# Altium integrated library ALTIUM-WE-LQS-rev16b.IntLib: 189 symbols (part 2 of 2)
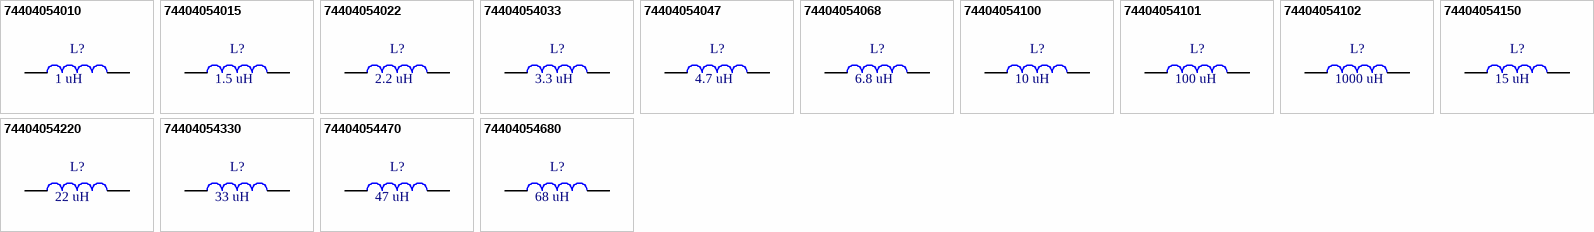
[diagram p13: symbols 74404054010 to 74404054680]

## 74404054102
designator L?  value 1000 uH
WE-LQS SMD Power Inductor, size 5040, 1000 uH; PartNumber: 74404054102; RatedCurrent: 0.2 A; PublishedDate: Nov. 2016; Publisher: Wurth Elektronik; ComponentLink1Description: Manufacturer; ComponentLink1URL: http://www.we-online.de; ComponentLink2Description: Datasheet; ComponentLink2URL: http://katalog.we-online.de/pbs/datasheet/74404054102.pdf; Size: 5040
footprint WE-LQS_5040
pins: 1, 2

## 74404054150
designator L?  value 15 uH
WE-LQS SMD Power Inductor, size 5040, 15 uH; PartNumber: 74404054150; RatedCurrent: 2 A; PublishedDate: Nov. 2016; Publisher: Wurth Elektronik; ComponentLink1Description: Manufacturer; ComponentLink1URL: http://www.we-online.de; ComponentLink2Description: Datasheet; ComponentLink2URL: http://katalog.we-online.de/pbs/datasheet/74404054150.pdf; Size: 5040
footprint WE-LQS_5040
pins: 1, 2

## 74404054220
designator L?  value 22 uH
WE-LQS SMD Power Inductor, size 5040, 22 uH; PartNumber: 74404054220; RatedCurrent: 1.5 A; PublishedDate: Nov. 2016; Publisher: Wurth Elektronik; ComponentLink1Description: Manufacturer; ComponentLink1URL: http://www.we-online.de; ComponentLink2Description: Datasheet; ComponentLink2URL: http://katalog.we-online.de/pbs/datasheet/74404054220.pdf; Size: 5040
footprint WE-LQS_5040
pins: 1, 2

## 74404054330
designator L?  value 33 uH
WE-LQS SMD Power Inductor, size 5040, 33 uH; PartNumber: 74404054330; RatedCurrent: 1.2 A; PublishedDate: Nov. 2016; Publisher: Wurth Elektronik; ComponentLink1Description: Manufacturer; ComponentLink1URL: http://www.we-online.de; ComponentLink2Description: Datasheet; ComponentLink2URL: http://katalog.we-online.de/pbs/datasheet/74404054330.pdf; Size: 5040
footprint WE-LQS_5040
pins: 1, 2

## 74404054470
designator L?  value 47 uH
WE-LQS SMD Power Inductor, size 5040, 47 uH; PartNumber: 74404054470; RatedCurrent: 1 A; PublishedDate: Nov. 2016; Publisher: Wurth Elektronik; ComponentLink1Description: Manufacturer; ComponentLink1URL: http://www.we-online.de; ComponentLink2Description: Datasheet; ComponentLink2URL: http://katalog.we-online.de/pbs/datasheet/74404054470.pdf; Size: 5040
footprint WE-LQS_5040
pins: 1, 2

## 74404054680
designator L?  value 68 uH
WE-LQS SMD Power Inductor, size 5040, 68 uH; PartNumber: 74404054680; RatedCurrent: 0.8 A; PublishedDate: Nov. 2016; Publisher: Wurth Elektronik; ComponentLink1Description: Manufacturer; ComponentLink1URL: http://www.we-online.de; ComponentLink2Description: Datasheet; ComponentLink2URL: http://katalog.we-online.de/pbs/datasheet/74404054680.pdf; Size: 5040
footprint WE-LQS_5040 (SMD Power Inductor, 2-Leads, body 5.0x5.0mm)
pins: 1, 2


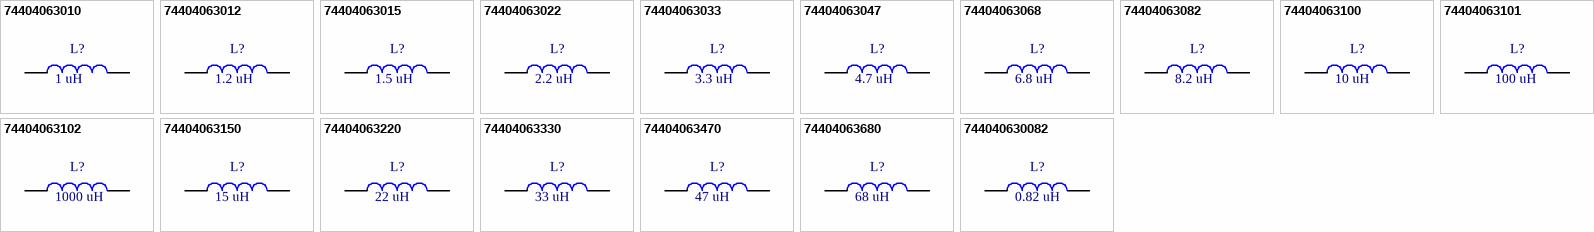
[diagram p9: symbols 74404063010 to 744040630082]

## 74404063010
designator L?  value 1 uH
WE-LQS SMD Power Inductor, size 6028, 1 uH; PartNumber: 74404063010; RatedCurrent: 5.2 A; PublishedDate: Nov. 2016; Publisher: Wurth Elektronik; ComponentLink1Description: Manufacturer; ComponentLink1URL: http://www.we-online.de; ComponentLink2Description: Datasheet; ComponentLink2URL: http://katalog.we-online.de/pbs/datasheet/74404063010.pdf; Size: 6028
footprint WE-LQS_6028
pins: 1, 2

## 74404063012
designator L?  value 1.2 uH
WE-LQS SMD Power Inductor, size 6028, 1.2 uH; PartNumber: 74404063012; RatedCurrent: 4.7 A; PublishedDate: Nov. 2016; Publisher: Wurth Elektronik; ComponentLink1Description: Manufacturer; ComponentLink1URL: http://www.we-online.de; ComponentLink2Description: Datasheet; ComponentLink2URL: http://katalog.we-online.de/pbs/datasheet/74404063012.pdf; Size: 6028
footprint WE-LQS_6028
pins: 1, 2

## 74404063015
designator L?  value 1.5 uH
WE-LQS SMD Power Inductor, size 6028, 1.5 uH; PartNumber: 74404063015; RatedCurrent: 4.58 A; PublishedDate: Nov. 2016; Publisher: Wurth Elektronik; ComponentLink1Description: Manufacturer; ComponentLink1URL: http://www.we-online.de; ComponentLink2Description: Datasheet; ComponentLink2URL: http://katalog.we-online.de/pbs/datasheet/74404063015.pdf; Size: 6028
footprint WE-LQS_6028
pins: 1, 2

## 74404063022
designator L?  value 2.2 uH
WE-LQS SMD Power Inductor, size 6028, 2.2 uH; PartNumber: 74404063022; RatedCurrent: 3.75 A; PublishedDate: Nov. 2016; Publisher: Wurth Elektronik; ComponentLink1Description: Manufacturer; ComponentLink1URL: http://www.we-online.de; ComponentLink2Description: Datasheet; ComponentLink2URL: http://katalog.we-online.de/pbs/datasheet/74404063022.pdf; Size: 6028
footprint WE-LQS_6028
pins: 1, 2

## 74404063033
designator L?  value 3.3 uH
WE-LQS SMD Power Inductor, size 6028, 3.3 uH; PartNumber: 74404063033; RatedCurrent: 3.48 A; PublishedDate: Nov. 2016; Publisher: Wurth Elektronik; ComponentLink1Description: Manufacturer; ComponentLink1URL: http://www.we-online.de; ComponentLink2Description: Datasheet; ComponentLink2URL: http://katalog.we-online.de/pbs/datasheet/74404063033.pdf; Size: 6028
footprint WE-LQS_6028
pins: 1, 2

## 74404063047
designator L?  value 4.7 uH
WE-LQS SMD Power Inductor, size 6028, 4.7 uH; PartNumber: 74404063047; RatedCurrent: 3.08 A; PublishedDate: Nov. 2016; Publisher: Wurth Elektronik; ComponentLink1Description: Manufacturer; ComponentLink1URL: http://www.we-online.de; ComponentLink2Description: Datasheet; ComponentLink2URL: http://katalog.we-online.de/pbs/datasheet/74404063047.pdf; Size: 6028
footprint WE-LQS_6028
pins: 1, 2

## 74404063068
designator L?  value 6.8 uH
WE-LQS SMD Power Inductor, size 6028, 6.8 uH; PartNumber: 74404063068; RatedCurrent: 2.4 A; PublishedDate: Nov. 2016; Publisher: Wurth Elektronik; ComponentLink1Description: Manufacturer; ComponentLink1URL: http://www.we-online.de; ComponentLink2Description: Datasheet; ComponentLink2URL: http://katalog.we-online.de/pbs/datasheet/74404063068.pdf; Size: 6028
footprint WE-LQS_6028
pins: 1, 2

## 74404063082
designator L?  value 8.2 uH
WE-LQS SMD Power Inductor, size 6028, 8.2 uH; PartNumber: 74404063082; RatedCurrent: 2.25 A; PublishedDate: Nov. 2016; Publisher: Wurth Elektronik; ComponentLink1Description: Manufacturer; ComponentLink1URL: http://www.we-online.de; ComponentLink2Description: Datasheet; ComponentLink2URL: http://katalog.we-online.de/pbs/datasheet/74404063082.pdf; Size: 6028
footprint WE-LQS_6028
pins: 1, 2

## 74404063100
designator L?  value 10 uH
WE-LQS SMD Power Inductor, size 6028, 10 uH; PartNumber: 74404063100; RatedCurrent: 1.95 A; PublishedDate: Nov. 2016; Publisher: Wurth Elektronik; ComponentLink1Description: Manufacturer; ComponentLink1URL: http://www.we-online.de; ComponentLink2Description: Datasheet; ComponentLink2URL: http://katalog.we-online.de/pbs/datasheet/74404063100.pdf; Size: 6028
footprint WE-LQS_6028
pins: 1, 2

## 74404063101
designator L?  value 100 uH
WE-LQS SMD Power Inductor, size 6028, 100 uH; PartNumber: 74404063101; RatedCurrent: 0.7 A; PublishedDate: Nov. 2016; Publisher: Wurth Elektronik; ComponentLink1Description: Manufacturer; ComponentLink1URL: http://www.we-online.de; ComponentLink2Description: Datasheet; ComponentLink2URL: http://katalog.we-online.de/pbs/datasheet/74404063101.pdf; Size: 6028
footprint WE-LQS_6028
pins: 1, 2

## 74404063102
designator L?  value 1000 uH
WE-LQS SMD Power Inductor, size 6028, 1000 uH; PartNumber: 74404063102; RatedCurrent: 0.22 A; PublishedDate: Nov. 2016; Publisher: Wurth Elektronik; ComponentLink1Description: Manufacturer; ComponentLink1URL: http://www.we-online.de; ComponentLink2Description: Datasheet; ComponentLink2URL: http://katalog.we-online.de/pbs/datasheet/74404063102.pdf; Size: 6028
footprint WE-LQS_6028
pins: 1, 2

## 74404063150
designator L?  value 15 uH
WE-LQS SMD Power Inductor, size 6028, 15 uH; PartNumber: 74404063150; RatedCurrent: 1.45 A; PublishedDate: Nov. 2016; Publisher: Wurth Elektronik; ComponentLink1Description: Manufacturer; ComponentLink1URL: http://www.we-online.de; ComponentLink2Description: Datasheet; ComponentLink2URL: http://katalog.we-online.de/pbs/datasheet/74404063150.pdf; Size: 6028
footprint WE-LQS_6028
pins: 1, 2

## 74404063220
designator L?  value 22 uH
WE-LQS SMD Power Inductor, size 6028, 22 uH; PartNumber: 74404063220; RatedCurrent: 1.4 A; PublishedDate: Nov. 2016; Publisher: Wurth Elektronik; ComponentLink1Description: Manufacturer; ComponentLink1URL: http://www.we-online.de; ComponentLink2Description: Datasheet; ComponentLink2URL: http://katalog.we-online.de/pbs/datasheet/74404063220.pdf; Size: 6028
footprint WE-LQS_6028
pins: 1, 2

## 74404063330
designator L?  value 33 uH
WE-LQS SMD Power Inductor, size 6028, 33 uH; PartNumber: 74404063330; RatedCurrent: 1.22 A; PublishedDate: Nov. 2016; Publisher: Wurth Elektronik; ComponentLink1Description: Manufacturer; ComponentLink1URL: http://www.we-online.de; ComponentLink2Description: Datasheet; ComponentLink2URL: http://katalog.we-online.de/pbs/datasheet/74404063330.pdf; Size: 6028
footprint WE-LQS_6028
pins: 1, 2

## 74404063470
designator L?  value 47 uH
WE-LQS SMD Power Inductor, size 6028, 47 uH; PartNumber: 74404063470; RatedCurrent: 1.06 A; PublishedDate: Nov. 2016; Publisher: Wurth Elektronik; ComponentLink1Description: Manufacturer; ComponentLink1URL: http://www.we-online.de; ComponentLink2Description: Datasheet; ComponentLink2URL: http://katalog.we-online.de/pbs/datasheet/74404063470.pdf; Size: 6028
footprint WE-LQS_6028
pins: 1, 2

## 74404063680
designator L?  value 68 uH
WE-LQS SMD Power Inductor, size 6028, 68 uH; PartNumber: 74404063680; RatedCurrent: 0.86 A; PublishedDate: Nov. 2016; Publisher: Wurth Elektronik; ComponentLink1Description: Manufacturer; ComponentLink1URL: http://www.we-online.de; ComponentLink2Description: Datasheet; ComponentLink2URL: http://katalog.we-online.de/pbs/datasheet/74404063680.pdf; Size: 6028
footprint WE-LQS_6028 (SMD Power Inductor, 2-Leads, body 6.0x6.0mm)
pins: 1, 2

## 744040630082
designator L?  value 0.82 uH
WE-LQS SMD Power Inductor, size 6028, 0.82 uH; PartNumber: 744040630082; RatedCurrent: 6 A; PublishedDate: Nov. 2016; Publisher: Wurth Elektronik; ComponentLink1Description: Manufacturer; ComponentLink1URL: http://www.we-online.de; ComponentLink2Description: Datasheet; ComponentLink2URL: http://katalog.we-online.de/pbs/datasheet/744040630082.pdf; Size: 6028
footprint WE-LQS_6028
pins: 1, 2


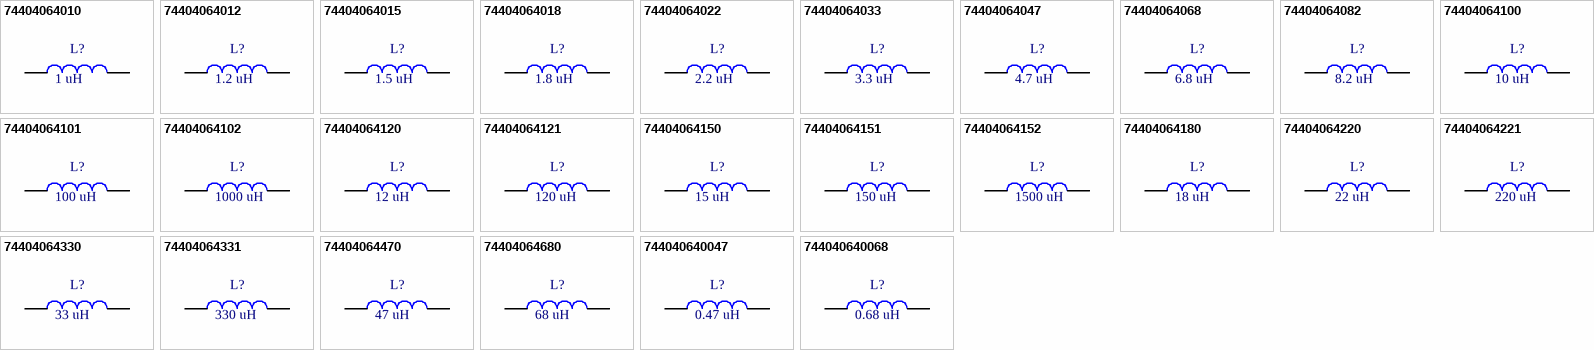
[diagram p10: symbols 74404064010 to 744040640068]

## 74404064010
designator L?  value 1 uH
WE-LQS SMD Power Inductor, size 6045, 1 uH; PartNumber: 74404064010; RatedCurrent: 5.14 A; PublishedDate: Nov. 2016; Publisher: Wurth Elektronik; ComponentLink1Description: Manufacturer; ComponentLink1URL: http://www.we-online.de; ComponentLink2Description: Datasheet; ComponentLink2URL: http://katalog.we-online.de/pbs/datasheet/74404064010.pdf; Size: 6045
footprint WE-LQS_6045
pins: 1, 2

## 74404064012
designator L?  value 1.2 uH
WE-LQS SMD Power Inductor, size 6045, 1.2 uH; PartNumber: 74404064012; RatedCurrent: 5.4 A; PublishedDate: Nov. 2016; Publisher: Wurth Elektronik; ComponentLink1Description: Manufacturer; ComponentLink1URL: http://www.we-online.de; ComponentLink2Description: Datasheet; ComponentLink2URL: http://katalog.we-online.de/pbs/datasheet/74404064012.pdf; Size: 6045
footprint WE-LQS_6045
pins: 1, 2

## 74404064015
designator L?  value 1.5 uH
WE-LQS SMD Power Inductor, size 6045, 1.5 uH; PartNumber: 74404064015; RatedCurrent: 4.95 A; PublishedDate: Nov. 2016; Publisher: Wurth Elektronik; ComponentLink1Description: Manufacturer; ComponentLink1URL: http://www.we-online.de; ComponentLink2Description: Datasheet; ComponentLink2URL: http://katalog.we-online.de/pbs/datasheet/74404064015.pdf; Size: 6045
footprint WE-LQS_6045
pins: 1, 2

## 74404064018
designator L?  value 1.8 uH
WE-LQS SMD Power Inductor, size 6045, 1.8 uH; PartNumber: 74404064018; RatedCurrent: 4.95 A; PublishedDate: Nov. 2016; Publisher: Wurth Elektronik; ComponentLink1Description: Manufacturer; ComponentLink1URL: http://www.we-online.de; ComponentLink2Description: Datasheet; ComponentLink2URL: http://katalog.we-online.de/pbs/datasheet/74404064018.pdf; Size: 6045
footprint WE-LQS_6045
pins: 1, 2

## 74404064022
designator L?  value 2.2 uH
WE-LQS SMD Power Inductor, size 6045, 2.2 uH; PartNumber: 74404064022; RatedCurrent: 4.6 A; PublishedDate: Nov. 2016; Publisher: Wurth Elektronik; ComponentLink1Description: Manufacturer; ComponentLink1URL: http://www.we-online.de; ComponentLink2Description: Datasheet; ComponentLink2URL: http://katalog.we-online.de/pbs/datasheet/74404064022.pdf; Size: 6045
footprint WE-LQS_6045
pins: 1, 2

## 74404064033
designator L?  value 3.3 uH
WE-LQS SMD Power Inductor, size 6045, 3.3 uH; PartNumber: 74404064033; RatedCurrent: 3.7 A; PublishedDate: Nov. 2016; Publisher: Wurth Elektronik; ComponentLink1Description: Manufacturer; ComponentLink1URL: http://www.we-online.de; ComponentLink2Description: Datasheet; ComponentLink2URL: http://katalog.we-online.de/pbs/datasheet/74404064033.pdf; Size: 6045
footprint WE-LQS_6045
pins: 1, 2

## 74404064047
designator L?  value 4.7 uH
WE-LQS SMD Power Inductor, size 6045, 4.7 uH; PartNumber: 74404064047; RatedCurrent: 3.3 A; PublishedDate: Nov. 2016; Publisher: Wurth Elektronik; ComponentLink1Description: Manufacturer; ComponentLink1URL: http://www.we-online.de; ComponentLink2Description: Datasheet; ComponentLink2URL: http://katalog.we-online.de/pbs/datasheet/74404064047.pdf; Size: 6045
footprint WE-LQS_6045
pins: 1, 2

## 74404064068
designator L?  value 6.8 uH
WE-LQS SMD Power Inductor, size 6045, 6.8 uH; PartNumber: 74404064068; RatedCurrent: 3 A; PublishedDate: Nov. 2016; Publisher: Wurth Elektronik; ComponentLink1Description: Manufacturer; ComponentLink1URL: http://www.we-online.de; ComponentLink2Description: Datasheet; ComponentLink2URL: http://katalog.we-online.de/pbs/datasheet/74404064068.pdf; Size: 6045
footprint WE-LQS_6045
pins: 1, 2

## 74404064082
designator L?  value 8.2 uH
WE-LQS SMD Power Inductor, size 6045, 8.2 uH; PartNumber: 74404064082; RatedCurrent: 2.6 A; PublishedDate: Nov. 2016; Publisher: Wurth Elektronik; ComponentLink1Description: Manufacturer; ComponentLink1URL: http://www.we-online.de; ComponentLink2Description: Datasheet; ComponentLink2URL: http://katalog.we-online.de/pbs/datasheet/74404064082.pdf; Size: 6045
footprint WE-LQS_6045
pins: 1, 2

## 74404064100
designator L?  value 10 uH
WE-LQS SMD Power Inductor, size 6045, 10 uH; PartNumber: 74404064100; RatedCurrent: 2.45 A; PublishedDate: Nov. 2016; Publisher: Wurth Elektronik; ComponentLink1Description: Manufacturer; ComponentLink1URL: http://www.we-online.de; ComponentLink2Description: Datasheet; ComponentLink2URL: http://katalog.we-online.de/pbs/datasheet/74404064100.pdf; Size: 6045
footprint WE-LQS_6045
pins: 1, 2

## 74404064101
designator L?  value 100 uH
WE-LQS SMD Power Inductor, size 6045, 100 uH; PartNumber: 74404064101; RatedCurrent: 0.8 A; PublishedDate: Nov. 2016; Publisher: Wurth Elektronik; ComponentLink1Description: Manufacturer; ComponentLink1URL: http://www.we-online.de; ComponentLink2Description: Datasheet; ComponentLink2URL: http://katalog.we-online.de/pbs/datasheet/74404064101.pdf; Size: 6045
footprint WE-LQS_6045
pins: 1, 2

## 74404064102
designator L?  value 1000 uH
WE-LQS SMD Power Inductor, size 6045, 1000 uH; PartNumber: 74404064102; RatedCurrent: 0.25 A; PublishedDate: Nov. 2016; Publisher: Wurth Elektronik; ComponentLink1Description: Manufacturer; ComponentLink1URL: http://www.we-online.de; ComponentLink2Description: Datasheet; ComponentLink2URL: http://katalog.we-online.de/pbs/datasheet/74404064102.pdf; Size: 6045
footprint WE-LQS_6045
pins: 1, 2

## 74404064120
designator L?  value 12 uH
WE-LQS SMD Power Inductor, size 6045, 12 uH; PartNumber: 74404064120; RatedCurrent: 2.2 A; PublishedDate: Nov. 2016; Publisher: Wurth Elektronik; ComponentLink1Description: Manufacturer; ComponentLink1URL: http://www.we-online.de; ComponentLink2Description: Datasheet; ComponentLink2URL: http://katalog.we-online.de/pbs/datasheet/74404064120.pdf; Size: 6045
footprint WE-LQS_6045
pins: 1, 2

## 74404064121
designator L?  value 120 uH
WE-LQS SMD Power Inductor, size 6045, 120 uH; PartNumber: 74404064121; RatedCurrent: 0.79 A; PublishedDate: Nov. 2016; Publisher: Wurth Elektronik; ComponentLink1Description: Manufacturer; ComponentLink1URL: http://www.we-online.de; ComponentLink2Description: Datasheet; ComponentLink2URL: http://katalog.we-online.de/pbs/datasheet/74404064121.pdf; Size: 6045
footprint WE-LQS_6045
pins: 1, 2

## 74404064150
designator L?  value 15 uH
WE-LQS SMD Power Inductor, size 6045, 15 uH; PartNumber: 74404064150; RatedCurrent: 2.05 A; PublishedDate: Nov. 2016; Publisher: Wurth Elektronik; ComponentLink1Description: Manufacturer; ComponentLink1URL: http://www.we-online.de; ComponentLink2Description: Datasheet; ComponentLink2URL: http://katalog.we-online.de/pbs/datasheet/74404064150.pdf; Size: 6045
footprint WE-LQS_6045
pins: 1, 2

## 74404064151
designator L?  value 150 uH
WE-LQS SMD Power Inductor, size 6045, 150 uH; PartNumber: 74404064151; RatedCurrent: 0.77 A; PublishedDate: Nov. 2016; Publisher: Wurth Elektronik; ComponentLink1Description: Manufacturer; ComponentLink1URL: http://www.we-online.de; ComponentLink2Description: Datasheet; ComponentLink2URL: http://katalog.we-online.de/pbs/datasheet/74404064151.pdf; Size: 6045
footprint WE-LQS_6045
pins: 1, 2

## 74404064152
designator L?  value 1500 uH
WE-LQS SMD Power Inductor, size 6045, 1500 uH; PartNumber: 74404064152; RatedCurrent: 0.21 A; PublishedDate: Nov. 2016; Publisher: Wurth Elektronik; ComponentLink1Description: Manufacturer; ComponentLink1URL: http://www.we-online.de; ComponentLink2Description: Datasheet; ComponentLink2URL: http://katalog.we-online.de/pbs/datasheet/74404064152.pdf; Size: 6045
footprint WE-LQS_6045
pins: 1, 2

## 74404064180
designator L?  value 18 uH
WE-LQS SMD Power Inductor, size 6045, 18 uH; PartNumber: 74404064180; RatedCurrent: 1.85 A; PublishedDate: Nov. 2016; Publisher: Wurth Elektronik; ComponentLink1Description: Manufacturer; ComponentLink1URL: http://www.we-online.de; ComponentLink2Description: Datasheet; ComponentLink2URL: http://katalog.we-online.de/pbs/datasheet/74404064180.pdf; Size: 6045
footprint WE-LQS_6045
pins: 1, 2

## 74404064220
designator L?  value 22 uH
WE-LQS SMD Power Inductor, size 6045, 22 uH; PartNumber: 74404064220; RatedCurrent: 1.8 A; PublishedDate: Nov. 2016; Publisher: Wurth Elektronik; ComponentLink1Description: Manufacturer; ComponentLink1URL: http://www.we-online.de; ComponentLink2Description: Datasheet; ComponentLink2URL: http://katalog.we-online.de/pbs/datasheet/74404064220.pdf; Size: 6045
footprint WE-LQS_6045
pins: 1, 2

## 74404064221
designator L?  value 220 uH
WE-LQS SMD Power Inductor, size 6045, 220 uH; PartNumber: 74404064221; RatedCurrent: 0.66 A; PublishedDate: Nov. 2016; Publisher: Wurth Elektronik; ComponentLink1Description: Manufacturer; ComponentLink1URL: http://www.we-online.de; ComponentLink2Description: Datasheet; ComponentLink2URL: http://katalog.we-online.de/pbs/datasheet/74404064221.pdf; Size: 6045
footprint WE-LQS_6045
pins: 1, 2

## 74404064330
designator L?  value 33 uH
WE-LQS SMD Power Inductor, size 6045, 33 uH; PartNumber: 74404064330; RatedCurrent: 1.45 A; PublishedDate: Nov. 2016; Publisher: Wurth Elektronik; ComponentLink1Description: Manufacturer; ComponentLink1URL: http://www.we-online.de; ComponentLink2Description: Datasheet; ComponentLink2URL: http://katalog.we-online.de/pbs/datasheet/74404064330.pdf; Size: 6045
footprint WE-LQS_6045
pins: 1, 2

## 74404064331
designator L?  value 330 uH
WE-LQS SMD Power Inductor, size 6045, 330 uH; PartNumber: 74404064331; RatedCurrent: 0.51 A; PublishedDate: Nov. 2016; Publisher: Wurth Elektronik; ComponentLink1Description: Manufacturer; ComponentLink1URL: http://www.we-online.de; ComponentLink2Description: Datasheet; ComponentLink2URL: http://katalog.we-online.de/pbs/datasheet/74404064331.pdf; Size: 6045
footprint WE-LQS_6045
pins: 1, 2

## 74404064470
designator L?  value 47 uH
WE-LQS SMD Power Inductor, size 6045, 47 uH; PartNumber: 74404064470; RatedCurrent: 1.2 A; PublishedDate: Nov. 2016; Publisher: Wurth Elektronik; ComponentLink1Description: Manufacturer; ComponentLink1URL: http://www.we-online.de; ComponentLink2Description: Datasheet; ComponentLink2URL: http://katalog.we-online.de/pbs/datasheet/74404064470.pdf; Size: 6045
footprint WE-LQS_6045
pins: 1, 2

## 74404064680
designator L?  value 68 uH
WE-LQS SMD Power Inductor, size 6045, 68 uH; PartNumber: 74404064680; RatedCurrent: 1 A; PublishedDate: Nov. 2016; Publisher: Wurth Elektronik; ComponentLink1Description: Manufacturer; ComponentLink1URL: http://www.we-online.de; ComponentLink2Description: Datasheet; ComponentLink2URL: http://katalog.we-online.de/pbs/datasheet/74404064680.pdf; Size: 6045
footprint WE-LQS_6045 (SMD Power Inductor, 2-Leads, body 6.0x6.0mm)
pins: 1, 2

## 744040640047
designator L?  value 0.47 uH
WE-LQS SMD Power Inductor, size 6045, 0.47 uH; PartNumber: 744040640047; RatedCurrent: 6.85 A; PublishedDate: Nov. 2016; Publisher: Wurth Elektronik; ComponentLink1Description: Manufacturer; ComponentLink1URL: http://www.we-online.de; ComponentLink2Description: Datasheet; ComponentLink2URL: http://katalog.we-online.de/pbs/datasheet/744040640047.pdf; Size: 6045
footprint WE-LQS_6045
pins: 1, 2

## 744040640068
designator L?  value 0.68 uH
WE-LQS SMD Power Inductor, size 6045, 0.68 uH; PartNumber: 744040640068; RatedCurrent: 4.14 A; PublishedDate: Nov. 2016; Publisher: Wurth Elektronik; ComponentLink1Description: Manufacturer; ComponentLink1URL: http://www.we-online.de; ComponentLink2Description: Datasheet; ComponentLink2URL: http://katalog.we-online.de/pbs/datasheet/744040640068.pdf; Size: 6045
footprint WE-LQS_6045
pins: 1, 2


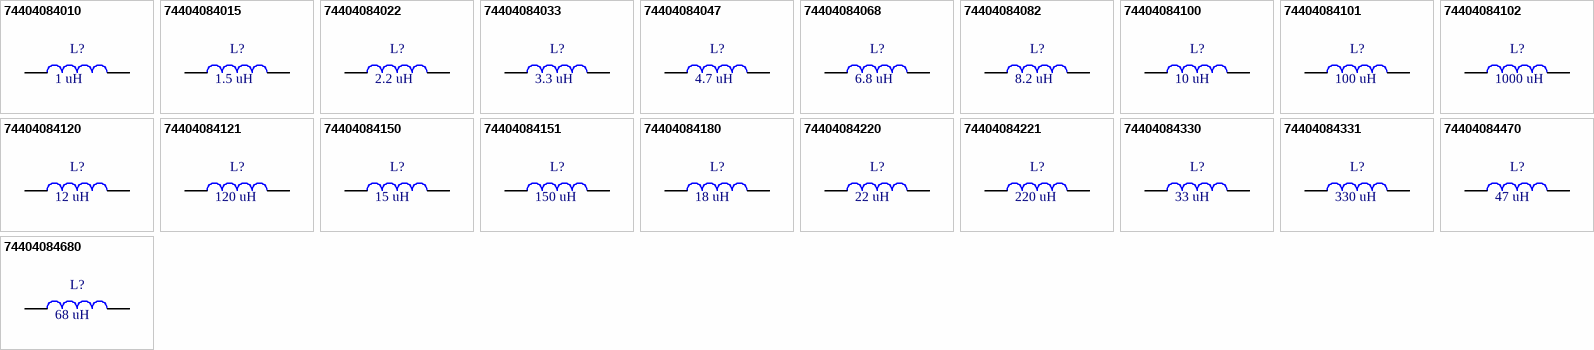
[diagram p11: symbols 74404084010 to 74404084680]

## 74404084010
designator L?  value 1 uH
WE-LQS SMD Power Inductor, size 8040, 1 uH; PartNumber: 74404084010; RatedCurrent: 6.3 A; PublishedDate: Nov. 2016; Publisher: Wurth Elektronik; ComponentLink1Description: Manufacturer; ComponentLink1URL: http://www.we-online.de; ComponentLink2Description: Datasheet; ComponentLink2URL: http://katalog.we-online.de/pbs/datasheet/74404084010.pdf; Size: 8040
footprint WE-LQS_8040
pins: 1, 2

## 74404084015
designator L?  value 1.5 uH
WE-LQS SMD Power Inductor, size 8040, 1.5 uH; PartNumber: 74404084015; RatedCurrent: 5.65 A; PublishedDate: Nov. 2016; Publisher: Wurth Elektronik; ComponentLink1Description: Manufacturer; ComponentLink1URL: http://www.we-online.de; ComponentLink2Description: Datasheet; ComponentLink2URL: http://katalog.we-online.de/pbs/datasheet/74404084015.pdf; Size: 8040
footprint WE-LQS_8040
pins: 1, 2

## 74404084022
designator L?  value 2.2 uH
WE-LQS SMD Power Inductor, size 8040, 2.2 uH; PartNumber: 74404084022; RatedCurrent: 5.15 A; PublishedDate: Nov. 2016; Publisher: Wurth Elektronik; ComponentLink1Description: Manufacturer; ComponentLink1URL: http://www.we-online.de; ComponentLink2Description: Datasheet; ComponentLink2URL: http://katalog.we-online.de/pbs/datasheet/74404084022.pdf; Size: 8040
footprint WE-LQS_8040
pins: 1, 2

## 74404084033
designator L?  value 3.3 uH
WE-LQS SMD Power Inductor, size 8040, 3.3 uH; PartNumber: 74404084033; RatedCurrent: 4.4 A; PublishedDate: Nov. 2016; Publisher: Wurth Elektronik; ComponentLink1Description: Manufacturer; ComponentLink1URL: http://www.we-online.de; ComponentLink2Description: Datasheet; ComponentLink2URL: http://katalog.we-online.de/pbs/datasheet/74404084033.pdf; Size: 8040
footprint WE-LQS_8040
pins: 1, 2

## 74404084047
designator L?  value 4.7 uH
WE-LQS SMD Power Inductor, size 8040, 4.7 uH; PartNumber: 74404084047; RatedCurrent: 4.1 A; PublishedDate: Nov. 2016; Publisher: Wurth Elektronik; ComponentLink1Description: Manufacturer; ComponentLink1URL: http://www.we-online.de; ComponentLink2Description: Datasheet; ComponentLink2URL: http://katalog.we-online.de/pbs/datasheet/74404084047.pdf; Size: 8040
footprint WE-LQS_8040
pins: 1, 2

## 74404084068
designator L?  value 6.8 uH
WE-LQS SMD Power Inductor, size 8040, 6.8 uH; PartNumber: 74404084068; RatedCurrent: 3.6 A; PublishedDate: Nov. 2016; Publisher: Wurth Elektronik; ComponentLink1Description: Manufacturer; ComponentLink1URL: http://www.we-online.de; ComponentLink2Description: Datasheet; ComponentLink2URL: http://katalog.we-online.de/pbs/datasheet/74404084068.pdf; Size: 8040
footprint WE-LQS_8040
pins: 1, 2

## 74404084082
designator L?  value 8.2 uH
WE-LQS SMD Power Inductor, size 8040, 8.2 uH; PartNumber: 74404084082; RatedCurrent: 3.45 A; PublishedDate: Nov. 2016; Publisher: Wurth Elektronik; ComponentLink1Description: Manufacturer; ComponentLink1URL: http://www.we-online.de; ComponentLink2Description: Datasheet; ComponentLink2URL: http://katalog.we-online.de/pbs/datasheet/74404084082.pdf; Size: 8040
footprint WE-LQS_8040
pins: 1, 2

## 74404084100
designator L?  value 10 uH
WE-LQS SMD Power Inductor, size 8040, 10 uH; PartNumber: 74404084100; RatedCurrent: 3.3 A; PublishedDate: Nov. 2016; Publisher: Wurth Elektronik; ComponentLink1Description: Manufacturer; ComponentLink1URL: http://www.we-online.de; ComponentLink2Description: Datasheet; ComponentLink2URL: http://katalog.we-online.de/pbs/datasheet/74404084100.pdf; Size: 8040
footprint WE-LQS_8040
pins: 1, 2

## 74404084101
designator L?  value 100 uH
WE-LQS SMD Power Inductor, size 8040, 100 uH; PartNumber: 74404084101; RatedCurrent: 1.2 A; PublishedDate: Nov. 2016; Publisher: Wurth Elektronik; ComponentLink1Description: Manufacturer; ComponentLink1URL: http://www.we-online.de; ComponentLink2Description: Datasheet; ComponentLink2URL: http://katalog.we-online.de/pbs/datasheet/74404084101.pdf; Size: 8040
footprint WE-LQS_8040
pins: 1, 2

## 74404084102
designator L?  value 1000 uH
WE-LQS SMD Power Inductor, size 8040, 1000 uH; PartNumber: 74404084102; RatedCurrent: 0.36 A; PublishedDate: Nov. 2016; Publisher: Wurth Elektronik; ComponentLink1Description: Manufacturer; ComponentLink1URL: http://www.we-online.de; ComponentLink2Description: Datasheet; ComponentLink2URL: http://katalog.we-online.de/pbs/datasheet/74404084102.pdf; Size: 8040
footprint WE-LQS_8040
pins: 1, 2

## 74404084120
designator L?  value 12 uH
WE-LQS SMD Power Inductor, size 8040, 12 uH; PartNumber: 74404084120; RatedCurrent: 2.8 A; PublishedDate: Nov. 2016; Publisher: Wurth Elektronik; ComponentLink1Description: Manufacturer; ComponentLink1URL: http://www.we-online.de; ComponentLink2Description: Datasheet; ComponentLink2URL: http://katalog.we-online.de/pbs/datasheet/74404084120.pdf; Size: 8040
footprint WE-LQS_8040
pins: 1, 2

## 74404084121
designator L?  value 120 uH
WE-LQS SMD Power Inductor, size 8040, 120 uH; PartNumber: 74404084121; RatedCurrent: 1.15 A; PublishedDate: Nov. 2016; Publisher: Wurth Elektronik; ComponentLink1Description: Manufacturer; ComponentLink1URL: http://www.we-online.de; ComponentLink2Description: Datasheet; ComponentLink2URL: http://katalog.we-online.de/pbs/datasheet/74404084121.pdf; Size: 8040
footprint WE-LQS_8040
pins: 1, 2

## 74404084150
designator L?  value 15 uH
WE-LQS SMD Power Inductor, size 8040, 15 uH; PartNumber: 74404084150; RatedCurrent: 2.6 A; PublishedDate: Nov. 2016; Publisher: Wurth Elektronik; ComponentLink1Description: Manufacturer; ComponentLink1URL: http://www.we-online.de; ComponentLink2Description: Datasheet; ComponentLink2URL: http://katalog.we-online.de/pbs/datasheet/74404084150.pdf; Size: 8040
footprint WE-LQS_8040
pins: 1, 2

## 74404084151
designator L?  value 150 uH
WE-LQS SMD Power Inductor, size 8040, 150 uH; PartNumber: 74404084151; RatedCurrent: 0.91 A; PublishedDate: Nov. 2016; Publisher: Wurth Elektronik; ComponentLink1Description: Manufacturer; ComponentLink1URL: http://www.we-online.de; ComponentLink2Description: Datasheet; ComponentLink2URL: http://katalog.we-online.de/pbs/datasheet/74404084151.pdf; Size: 8040
footprint WE-LQS_8040
pins: 1, 2

## 74404084180
designator L?  value 18 uH
WE-LQS SMD Power Inductor, size 8040, 18 uH; PartNumber: 74404084180; RatedCurrent: 2.4 A; PublishedDate: Nov. 2016; Publisher: Wurth Elektronik; ComponentLink1Description: Manufacturer; ComponentLink1URL: http://www.we-online.de; ComponentLink2Description: Datasheet; ComponentLink2URL: http://katalog.we-online.de/pbs/datasheet/74404084180.pdf; Size: 8040
footprint WE-LQS_8040
pins: 1, 2

## 74404084220
designator L?  value 22 uH
WE-LQS SMD Power Inductor, size 8040, 22 uH; PartNumber: 74404084220; RatedCurrent: 2.1 A; PublishedDate: Nov. 2016; Publisher: Wurth Elektronik; ComponentLink1Description: Manufacturer; ComponentLink1URL: http://www.we-online.de; ComponentLink2Description: Datasheet; ComponentLink2URL: http://katalog.we-online.de/pbs/datasheet/74404084220.pdf; Size: 8040
footprint WE-LQS_8040
pins: 1, 2

## 74404084221
designator L?  value 220 uH
WE-LQS SMD Power Inductor, size 8040, 220 uH; PartNumber: 74404084221; RatedCurrent: 0.81 A; PublishedDate: Nov. 2016; Publisher: Wurth Elektronik; ComponentLink1Description: Manufacturer; ComponentLink1URL: http://www.we-online.de; ComponentLink2Description: Datasheet; ComponentLink2URL: http://katalog.we-online.de/pbs/datasheet/74404084221.pdf; Size: 8040
footprint WE-LQS_8040
pins: 1, 2

## 74404084330
designator L?  value 33 uH
WE-LQS SMD Power Inductor, size 8040, 33 uH; PartNumber: 74404084330; RatedCurrent: 1.8 A; PublishedDate: Nov. 2016; Publisher: Wurth Elektronik; ComponentLink1Description: Manufacturer; ComponentLink1URL: http://www.we-online.de; ComponentLink2Description: Datasheet; ComponentLink2URL: http://katalog.we-online.de/pbs/datasheet/74404084330.pdf; Size: 8040
footprint WE-LQS_8040
pins: 1, 2

## 74404084331
designator L?  value 330 uH
WE-LQS SMD Power Inductor, size 8040, 330 uH; PartNumber: 74404084331; RatedCurrent: 0.66 A; PublishedDate: Nov. 2016; Publisher: Wurth Elektronik; ComponentLink1Description: Manufacturer; ComponentLink1URL: http://www.we-online.de; ComponentLink2Description: Datasheet; ComponentLink2URL: http://katalog.we-online.de/pbs/datasheet/74404084331.pdf; Size: 8040
footprint WE-LQS_8040
pins: 1, 2

## 74404084470
designator L?  value 47 uH
WE-LQS SMD Power Inductor, size 8040, 47 uH; PartNumber: 74404084470; RatedCurrent: 1.55 A; PublishedDate: Nov. 2016; Publisher: Wurth Elektronik; ComponentLink1Description: Manufacturer; ComponentLink1URL: http://www.we-online.de; ComponentLink2Description: Datasheet; ComponentLink2URL: http://katalog.we-online.de/pbs/datasheet/74404084470.pdf; Size: 8040
footprint WE-LQS_8040
pins: 1, 2

## 74404084680
designator L?  value 68 uH
WE-LQS SMD Power Inductor, size 8040, 68 uH; PartNumber: 74404084680; RatedCurrent: 1.25 A; PublishedDate: Nov. 2016; Publisher: Wurth Elektronik; ComponentLink1Description: Manufacturer; ComponentLink1URL: http://www.we-online.de; ComponentLink2Description: Datasheet; ComponentLink2URL: http://katalog.we-online.de/pbs/datasheet/74404084680.pdf; Size: 8040
footprint WE-LQS_8040 (SMD Power Inductor, 2-Leads, body 8.0x8.0mm)
pins: 1, 2


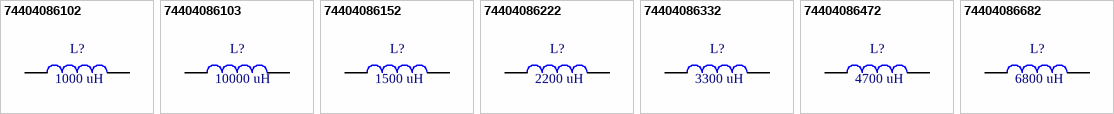
[diagram p12: symbols 74404086102 to 74404086682]

## 74404086102
designator L?  value 1000 uH
WE-LQS SMD Power Inductor, size 8065, 1000 uH; PartNumber: 74404086102; RatedCurrent: 0.48 A; PublishedDate: Nov. 2016; Publisher: Wurth Elektronik; ComponentLink1Description: Manufacturer; ComponentLink1URL: http://www.we-online.de; ComponentLink2Description: Datasheet; ComponentLink2URL: http://katalog.we-online.de/pbs/datasheet/74404086102.pdf; Size: 8065
footprint WE-LQS_8065
pins: 1, 2

## 74404086103
designator L?  value 10000 uH
WE-LQS SMD Power Inductor, size 8065, 10000 uH; PartNumber: 74404086103; RatedCurrent: 0.13 A; PublishedDate: Nov. 2016; Publisher: Wurth Elektronik; ComponentLink1Description: Manufacturer; ComponentLink1URL: http://www.we-online.de; ComponentLink2Description: Datasheet; ComponentLink2URL: http://katalog.we-online.de/pbs/datasheet/74404086103.pdf; Size: 8065
footprint WE-LQS_8065
pins: 1, 2

## 74404086152
designator L?  value 1500 uH
WE-LQS SMD Power Inductor, size 8065, 1500 uH; PartNumber: 74404086152; RatedCurrent: 0.36 A; PublishedDate: Nov. 2016; Publisher: Wurth Elektronik; ComponentLink1Description: Manufacturer; ComponentLink1URL: http://www.we-online.de; ComponentLink2Description: Datasheet; ComponentLink2URL: http://katalog.we-online.de/pbs/datasheet/74404086152.pdf; Size: 8065
footprint WE-LQS_8065
pins: 1, 2

## 74404086222
designator L?  value 2200 uH
WE-LQS SMD Power Inductor, size 8065, 2200 uH; PartNumber: 74404086222; RatedCurrent: 0.31 A; PublishedDate: Nov. 2016; Publisher: Wurth Elektronik; ComponentLink1Description: Manufacturer; ComponentLink1URL: http://www.we-online.de; ComponentLink2Description: Datasheet; ComponentLink2URL: http://katalog.we-online.de/pbs/datasheet/74404086222.pdf; Size: 8065
footprint WE-LQS_8065
pins: 1, 2

## 74404086332
designator L?  value 3300 uH
WE-LQS SMD Power Inductor, size 8065, 3300 uH; PartNumber: 74404086332; RatedCurrent: 0.24 A; PublishedDate: Nov. 2016; Publisher: Wurth Elektronik; ComponentLink1Description: Manufacturer; ComponentLink1URL: http://www.we-online.de; ComponentLink2Description: Datasheet; ComponentLink2URL: http://katalog.we-online.de/pbs/datasheet/74404086332.pdf; Size: 8065
footprint WE-LQS_8065
pins: 1, 2

## 74404086472
designator L?  value 4700 uH
WE-LQS SMD Power Inductor, size 8065, 4700 uH; PartNumber: 74404086472; RatedCurrent: 0.19 A; PublishedDate: Nov. 2016; Publisher: Wurth Elektronik; ComponentLink1Description: Manufacturer; ComponentLink1URL: http://www.we-online.de; ComponentLink2Description: Datasheet; ComponentLink2URL: http://katalog.we-online.de/pbs/datasheet/74404086472.pdf; Size: 8065
footprint WE-LQS_8065
pins: 1, 2

## 74404086682
designator L?  value 6800 uH
WE-LQS SMD Power Inductor, size 8065, 6800 uH; PartNumber: 74404086682; RatedCurrent: 0.14 A; PublishedDate: Nov. 2016; Publisher: Wurth Elektronik; ComponentLink1Description: Manufacturer; ComponentLink1URL: http://www.we-online.de; ComponentLink2Description: Datasheet; ComponentLink2URL: http://katalog.we-online.de/pbs/datasheet/74404086682.pdf; Size: 8065
footprint WE-LQS_8065 (SMD Power Inductor, 2-Leads, body 8.0x8.0mm)
pins: 1, 2